# Altium footprint library bornera.PcbLib: 1 footprints
Each footprint in its own frame and in the unit in brackets; x right, y up, seen from the top. Pads: shape width x height; smd on the part's side, far side on the other; paste and mask are expansions set on the pad; w line width, h text height; cw(c..) or ccw(c..) is an arc to the next point about the centre after c.
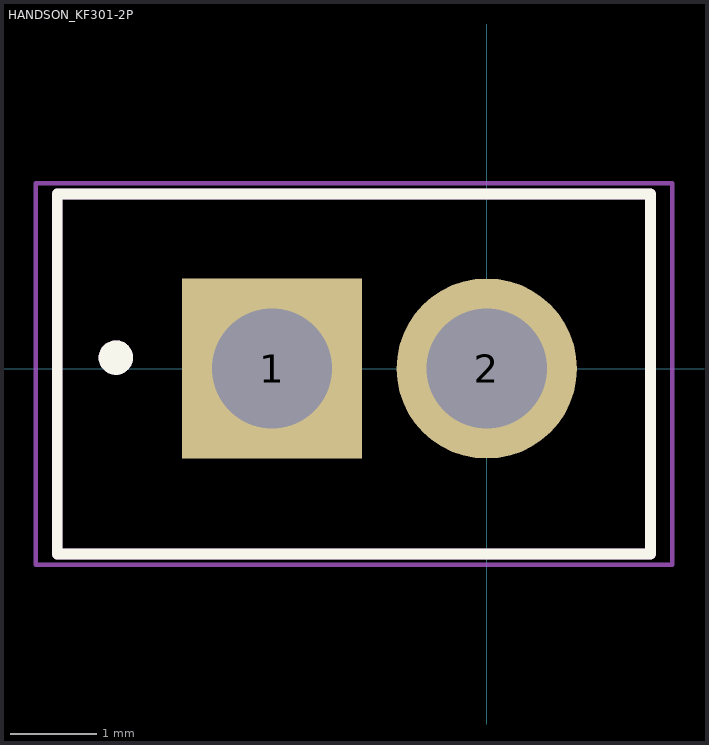
[diagram p0: the footprint, top view; thin cyan lines are the x and y axes]

## HANDSON_KF301-2P [mm]
pads (2):
  rect 2.1x2.1 hole 1.4: 1(-2.5,0)
  round 2.1 hole 1.4: 2(0,0)
Top Overlay:
  circle w0.2: c-4.318,0.127 r0.1
  lines w0.127: -5,-2.159 -5,2.032 1.905,2.032 1.905,-2.159 -5,-2.159
Mechanical 13:
  circle w0.2: c-4.318,0.127 r0.1
  lines w0.127: -5,-2.159 1.905,-2.159 1.905,2.032 -5,2.032 -5,-2.159
Mechanical 15:
  lines w0.05: -5.25,-2.286 2.159,-2.286 2.159,2.159 -5.25,2.159 -5.25,-2.286
3D body "DS1022-1x1RDF11.stp": height 2.5, standoff -3, extent -3.77,-10.03 -1.23,0.32
3D body "DS1022-1x1RDF11.stp": height 2.5, standoff -3, extent -1.27,-10.03 1.27,0.32